# EAGLE library part TSL2591 (library awqua_eagle_library)
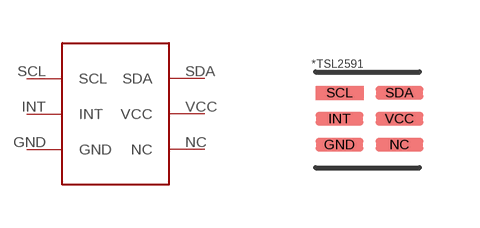
[diagram p9: symbol with the pads of TSL2591; footprint TSL2591]

Designator prefix -

## TSL2591  [TSL2591]
GND  GND
INT  INT
NC  NC
SCL  SCL
SDA  SDA
VCC  VCC

## Footprint TSL2591 (pad centres in mm)
smd 1.2 x 0.35: GND 0.6,0.175; INT 0.6,0.825; NC 2.1,0.175; SCL 0.6,1.475; SDA 2.1,1.475; VCC 2.1,0.825